# EAGLE library part SMDTOP-20 (library matt con-amp)
AMP connector
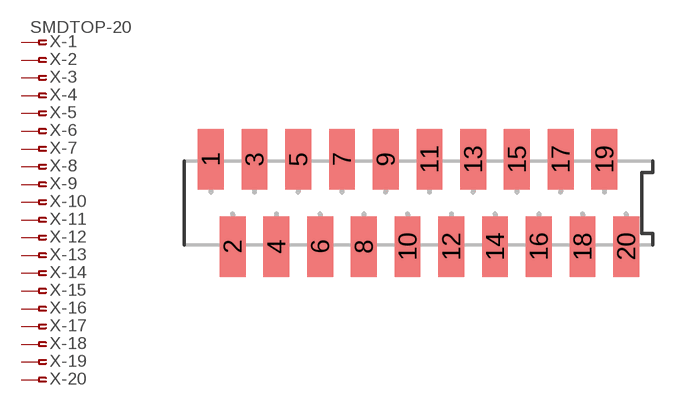
[diagram p81: symbol with the pads of SMDTOP20; footprint SMDTOP20]

Designator prefix X; gates -1=PIN-FV -2=PIN-F -3=PIN-F -4=PIN-F -5=PIN-F -6=PIN-F -7=PIN-F -8=PIN-F -9=PIN-F -10=PIN-F -11=PIN-F -12=PIN-F -13=PIN-F -14=PIN-F -15=PIN-F -16=PIN-F -17=PIN-F -18=PIN-F -19=PIN-F -20=PIN-F

## SMDTOP-20  [SMDTOP20]
1  -1:1  pas
2  -2:1  pas
3  -3:1  pas
4  -4:1  pas
5  -5:1  pas
6  -6:1  pas
7  -7:1  pas
8  -8:1  pas
9  -9:1  pas
10  -10:1  pas
11  -11:1  pas
12  -12:1  pas
13  -13:1  pas
14  -14:1  pas
15  -15:1  pas
16  -16:1  pas
17  -17:1  pas
18  -18:1  pas
19  -19:1  pas
20  -20:1  pas

## Footprint SMDTOP20 (pad centres in mm)
AMP connector
smd 1.5 x 3.5: 1 -12.065,2.54; 2 -10.795,-2.54; 3 -9.525,2.54; 4 -8.255,-2.54; 5 -6.985,2.54; 6 -5.715,-2.54; 7 -4.445,2.54; 8 -3.175,-2.54; 9 -1.905,2.54; 10 -0.635,-2.54; 11 0.635,2.54; 12 1.905,-2.54; 13 3.175,2.54; 14 4.445,-2.54; 15 5.715,2.54; 16 6.985,-2.54; 17 8.255,2.54; 18 9.525,-2.54; 19 10.795,2.54; 20 12.065,-2.54